# EAGLE library part 53398-0671_6P_V (library Micromirror_Ampli_PCB)
Pin header, PicoBlade 6-pin SMD, 53398-0671, Molex, single row straight, Distrelec : 143-54-221
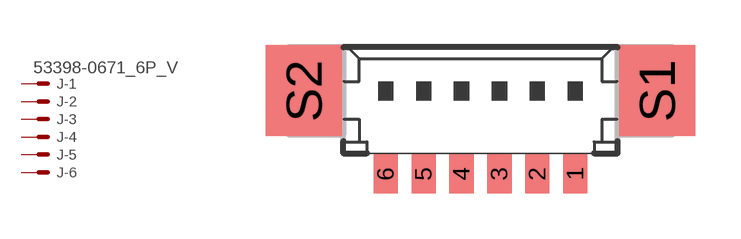
[diagram p10: symbol with the pads of 53398-06; footprint 53398-06]

Designator prefix J; gates -1=MV -2=M -3=M -4=M -5=M -6=M

## 53398-0671_6P_V (CABLE_ASSEMBLY_31565: Distrelec : 143-54-490; CONTACT_MATERIAL: Tin-plated phosphor bronze; CONTACT_RESISTANCE: 20mOm; CRIMP_SOCKET_FEMALE_32-28AWG_50058-8100: Distrelec : 143-00-962; CRIMP_SOCKET_FEMALE__28-26AWG_50079-8100: Distrelec : 143-00-964; DESIGN: Pin strip, single row straight, SMD; DISTRELEC: 143-54-221; MANUFACTURER: Molex; MOUSER: 538-53398-0671; PITCH: 1,25mm; POLE_NO: 6; RATED_CURRENT: 1A; RATED_VOLTAGE: 125VAC; SERIES: PicoBlade; SOCKET_51021-0600: Distrelec : 143-54-403)  [53398-06]
1  -1:S  pas
2  -2:S  pas
3  -3:S  pas
4  -4:S  pas
5  -5:S  pas
6  -6:S  pas

## Footprint 53398-06 (pad centres in mm)
Pico-Blade 53398-0671 vertical (l x p x h / 12,65 x 3,75 x 4,7mm)
smd 0.8 x 1.3: 1 3.125,-2.05; 2 1.875,-2.05; 3 0.625,-2.05; 4 -0.625,-2.05; 5 -1.875,-2.05; 6 -3.125,-2.05
smd 2.5 x 3: S1 5.825,0.69; S2 -5.825,0.69